# EAGLE library part TDA7052A (library My Library)
AUDIO AMPLIFIER
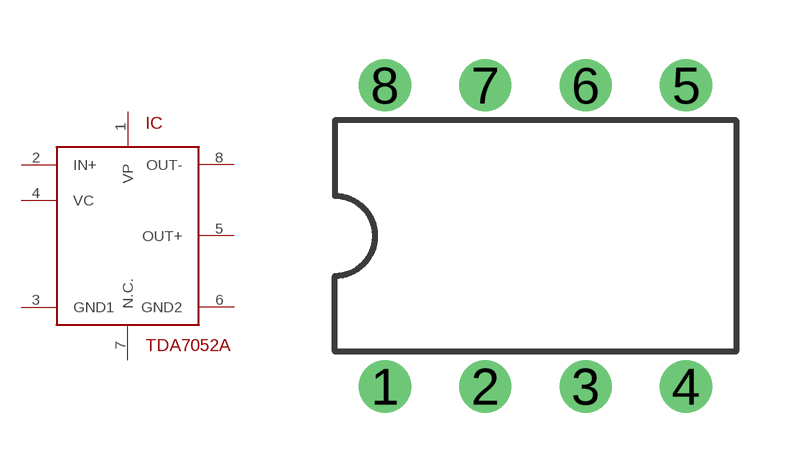
[diagram p6: symbol with the pads of DIL08; footprint DIL08]

Designator prefix IC

## TDA7052A  [DIL08]
1  VP  pwr
2  IN+  in
3  GND1  pwr
4  VC  out
5  OUT+  out
6  GND2  pwr
7  N.C.  nc
8  OUT-  out

## Footprint DIL08 (pad centres in mm)
Dual In Line Package
drill 0.813 pad 1.27: 1 -3.81,-3.81; 2 -1.27,-3.81; 3 1.27,-3.81; 4 3.81,-3.81; 5 3.81,3.81; 6 1.27,3.81; 7 -1.27,3.81; 8 -3.81,3.81